# Altium schematic symbol library fci.SchLib: 2 symbols
Pins are listed as number, name and electrical type; pins without a type are passive.

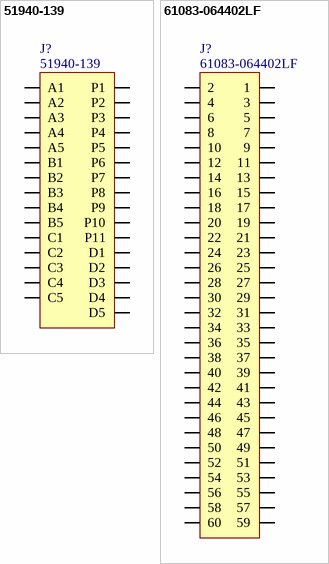
[diagram p0: symbols 51940-139 to 61083-064402LF]

## 51940-139
designator J?
FCI connector, striaght header
footprint 51940-139 (Straight Connector for TDI Charger)
pins: A1, A2, A3, A4, A5, B1, B2, B3, B4, B5, C1, C2, C3, C4, C5, D1, D2, D3, D4, D5, P1, P2, P3, P4, P5, P6, P7, P8, P9, P10, P11

## 61083-064402LF
designator J?
Supplier 1: Mouser; Supplier Part Number 1: 649-61083-064402LF
footprint 61083-064402LF (2x20 pin metric)
pins: 1, 2, 3, 4, 5, 6, 7, 8, 9, 10, 11, 12, 13, 14, 15, 16, 17, 18, 19, 20, 21, 22, 23, 24, 25, 26, 27, 28, 29, 30, 31, 32, 33, 34, 35, 36, 37, 38, 39, 40, 41, 42, 43, 44, 45, 46, 47, 48, 49, 50, 51, 52, 53, 54, 55, 56, 57, 58, 59, 60